# Altium schematic symbol library Wifi-Vista_6AXIS.SchLib: 4 symbols
Pins are listed as number, name and electrical type; pins without a type are passive.

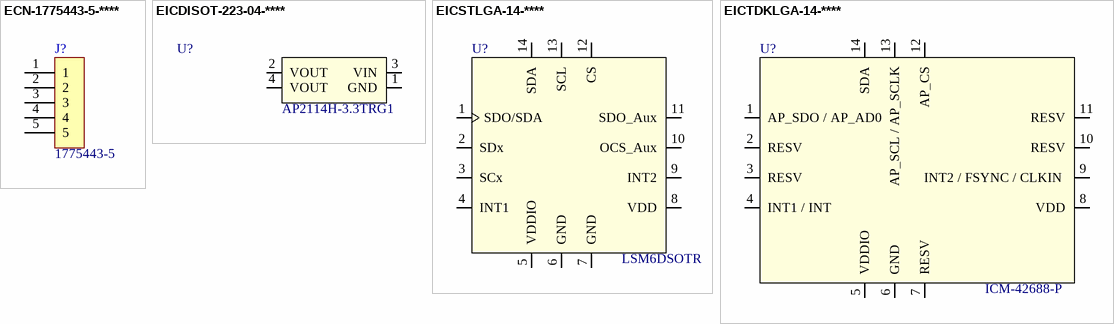
[diagram p0: symbols ECN-1775443-5-**** to EICTDKLGA-14-****]

## ECN-1775443-5-****
designator J?, comment value 1775443-5  (hidden comment: CONN HEADER SMD 5POS 1.5MM)
Internal Part Number: ECN-1775443-5-****; Manufacturer: TE Connectivity AMP Connectors; Vendor Part Number: A120419-ND; Temp Co: -55°C ~ 105°C; 3rd Auxiliary Field: RoHS Compliant; Component Height (mm): 5mm; Vendor Name: Digi-Key; 2nd Auxiliary Field: 1.50mm; 1st Auxiliary Field: 5; Part Type: CONN HEADER SMD 5POS 1.5MM; 4th Auxiliary Field: *; Manufacturer Part Number: 1775443-5
footprint TE_5-1775443-5
pins: 1, 2, 3, 4, 5
1 alternate drawing of the same symbol

## EICDISOT-223-04-****
designator U?, comment value AP2114H-3.3TRG1  (hidden comment: IC REG LINEAR 3.3V 1A SOT223)
Internal Part Number: EICDISOT-223-04-****; Manufacturer: Diodes Incorporated; Vendor Part Number: AP2114H-3.3TRG1DICT-ND; 3rd Auxiliary Field: RoHS Compliant; Component Height (mm): 1.8mm; Temp Co: -40°C ~ 85°C; Vendor Name: Digi-Key; 1st Auxiliary Field: 6V; 4th Auxiliary Field: 1A; Part Type: IC REG LINEAR 3.3V 1A SOT223; Manufacturer Part Number: AP2114H-3.3TRG1; 2nd Auxiliary Field: 3.3V
footprint SOT230P710X180-4N
pins: 1 GND, 2 VOUT (power), 3 VIN, 4 VOUT

## EICSTLGA-14-****
designator U?, comment value LSM6DSOTR  (hidden comment: Accelerometer, Gyroscope, 6 Axis Sensor I²C, SPI Output)
Internal Part Number: EICSTLGA-14-****; Manufacturer: STMicroelectronics; Vendor Part Number: 497-18181-1-ND; 3rd Auxiliary Field: RoHS Compliant; Component Height (mm): 0.82mm; Temp Co: -40°C ~ 85°C; Vendor Name: Digi-Key; 1st Auxiliary Field: 1.71 V to 3.6 V; 2nd Auxiliary Field: *; 4th Auxiliary Field: *; Part Type: Accelerometer, Gyroscope, 6 Axis Sensor I²C, SPI Output; Manufacturer Part Number: LSM6DSOTR
footprint PQFN50P300X250X97-14N (PQFN, 14-Leads, Body 3.00x2.50mm, Pitch 0.50mm, IPC Medium Density)
pins: 1 SDO/SDA, 2 SDx (power), 3 SCx, 4 INT1, 5 VDDIO, 6 GND, 7 GND, 8 VDD, 9 INT2, 10 OCS_Aux, 11 SDO_Aux, 12 CS, 13 SCL, 14 SDA

## EICTDKLGA-14-****
designator U?, comment value ICM-42688-P  (hidden comment: Accelerometer, Gyroscope, 6 Axis Sensor  Output)
Internal Part Number: EICTDKLGA-14-****; Manufacturer: TDK InvenSense; Vendor Part Number: 1428-ICM-42688-PCT-ND; 3rd Auxiliary Field: RoHS Compliant; Component Height (mm): 0.91mm; Temp Co: −40°C to +85°C; Vendor Name: Digi-Key; 1st Auxiliary Field: 1.71V to 3.6V; 2nd Auxiliary Field: *; 4th Auxiliary Field: *; Part Type: Accelerometer, Gyroscope, 6 Axis Sensor  Output; Manufacturer Part Number: ICM-42688-P
footprint PQFN50P300X250X97-14N (PQFN, 14-Leads, Body 3.00x2.50mm, Pitch 0.50mm, IPC Medium Density)
pins: 1 AP_SDO / AP_AD0, 2 RESV (power), 3 RESV, 4 INT1 / INT , 5 VDDIO, 6 GND, 7 RESV, 8 VDD, 9 INT2 / FSYNC / CLKIN , 10 RESV, 11 RESV, 12 AP_CS, 13 AP_SCL / AP_SCLK, 14 SDA